# Altium schematic symbol library MK2Library.SchLib: 1 symbol
Pins are listed as number, name and electrical type; pins without a type are passive.

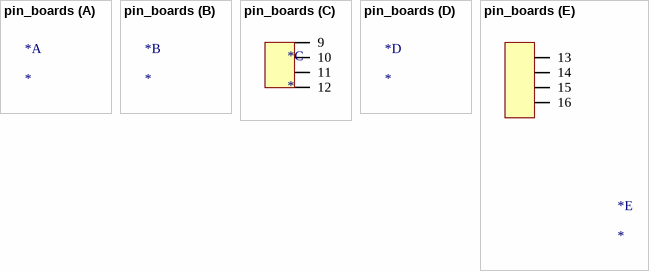
[diagram p0: symbol pin_boards]

## pin_boards
designator *
part C pins: 9, 10, 11, 12
part E pins: 13, 14, 15, 16